# EAGLE library part 428547320910 (library Wurth_Elektronik_Electromechanic_Switch_rev16b)
7x7 mm washable THT arrow type <http://katalog.we-online.de/media/images/v2/Family_WS-ROtV_THT_Rotary_Switch_428547320910.jpg> Details see: http://katalog.we-online.de/en/em/ROTV_7X7_WASHABLE_THT_ARROW_TYPE 2015 (C) Würth Elektronik
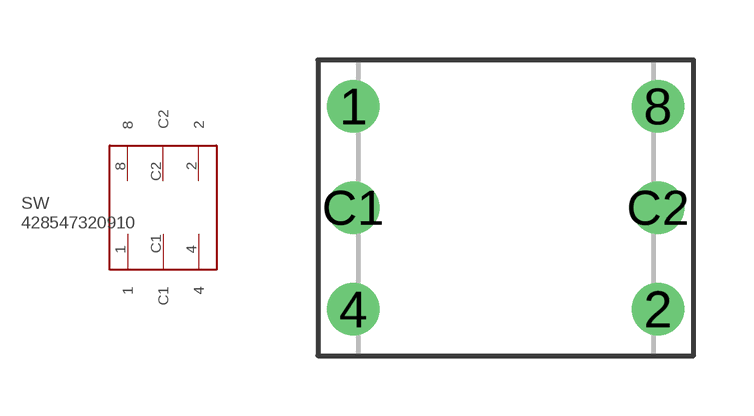
[diagram p128: symbol with the pads of 428547320910; footprint 428547320910]

Designator prefix SW

## 428547320910  [428547320910]
1  1
2  2
4  4
8  8
C1  C1
C2  C2

## Footprint 428547320910 (pad centres in mm)
WS-RAT, 7x7 mm washable THT Rotary Switch, 6 pins, 10 positions, round Arrow type, red actuator, real code
drill 0.8: 1 -3.81,2.54; 2 3.81,-2.54; 4 -3.81,-2.54; 8 3.81,2.54; C1 -3.81,0; C2 3.81,0